# EAGLE library part ATMEGA8A (library IC & Transistor)
SMD Microcontroller ATMEGA8A
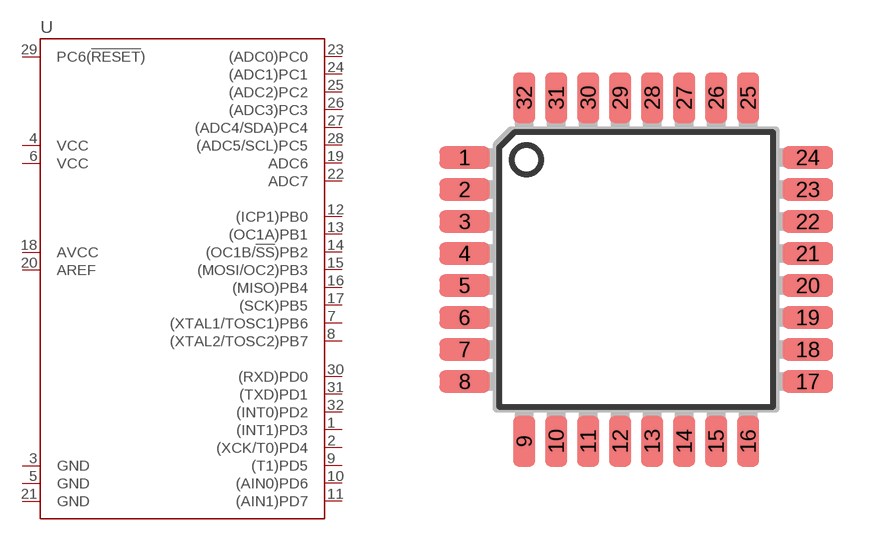
[diagram p47: symbol with the pads of TQFP-32-08; footprint TQFP-32-08]

Designator prefix -

## ATMEGA8A_(TQFP-32) (CYTRON-PC: S-IC-ATMEGA8A-TQFP32; DESC: S Microcontroller ATMEGA8A TQFP32; MF: ATMEL; MPN: ATMEGA8A-AU)  [TQFP-32-08]
1  (INT1)PD3
2  (XCK/T0)PD4
3  GND  pwr
4  VCC  pwr
5  GND  pwr
6  VCC  pwr
7  (XTAL1/TOSC1)PB6
8  (XTAL2/TOSC2)PB7
9  (T1)PD5
10  (AIN0)PD6
11  (AIN1)PD7
12  (ICP1)PB0
13  (OC1A)PB1
14  (OC1B/!SS!)PB2
15  (MOSI/OC2)PB3
16  (MISO)PB4
17  (SCK)PB5
18  AVCC
19  ADC6
20  AREF
21  GND  pwr
22  ADC7
23  (ADC0)PC0
24  (ADC1)PC1
25  (ADC2)PC2
26  (ADC3)PC3
27  (ADC4/SDA)PC4
28  (ADC5/SCL)PC5
29  PC6(!RESET!)
30  (RXD)PD0
31  (TXD)PD1
32  (INT0)PD2

## Footprint TQFP-32-08 (pad centres in mm)
Thin Plasic Quad Flat Package (TQFP) Size: Pin Pitch: 0.8mm
smd 1.27 x 0.559: 1 -4.293,2.8; 2 -4.293,2; 3 -4.293,1.2; 4 -4.293,0.4; 5 -4.293,-0.4; 6 -4.293,-1.2; 7 -4.293,-2; 8 -4.293,-2.8; 17 4.293,-2.8; 18 4.293,-2; 19 4.293,-1.2; 20 4.293,-0.4; 21 4.293,0.4; 22 4.293,1.2; 23 4.293,2; 24 4.293,2.8
smd 0.559 x 1.27: 9 -2.8,-4.293; 10 -2,-4.293; 11 -1.2,-4.293; 12 -0.4,-4.293; 13 0.4,-4.293; 14 1.2,-4.293; 15 2,-4.293; 16 2.8,-4.293; 25 2.8,4.293; 26 2,4.293; 27 1.2,4.293; 28 0.4,4.293; 29 -0.4,4.293; 30 -1.2,4.293; 31 -2,4.293; 32 -2.8,4.293